# Altium schematic symbol library CSD18543Q3A.SchLib: 2 symbols
Pins are listed as number, name and electrical type; pins without a type are passive.

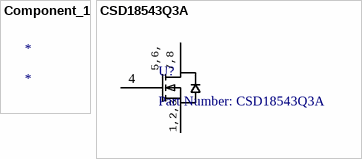
[diagram p0: symbols Component_1 to CSD18543Q3A]

## Component_1
designator *

## CSD18543Q3A
designator U?, comment Part Number: CSD18543Q3A
No Description Available; Vendor: Texas Instruments; Built_By: Texas_Instrument_Team; Value: 60V; VALUE_2: Value; Manufacturer_Part_Number: CSD18543Q3A; Copyright: Copyright (C) 2018 Accelerated Designs. All rights reserved; RefDes: RefDes; Type: DEV
footprint DNH0008A
pins: 1 S, 2 S, 3 S, 4 G, 5 D, 6 D, 7 D, 8 D, 9 D
text: 5,6,; 7,8; 1,2,3